# Altium footprint library ZenerDiode_DDZ6V8CSF-7_2-PIN.PcbLib: 1 footprints
Each footprint in its own frame and in the unit in brackets; x right, y up, seen from the top. Pads: shape width x height; smd on the part's side, far side on the other; paste and mask are expansions set on the pad; w line width, h text height; cw(c..) or ccw(c..) is an arc to the next point about the centre after c.
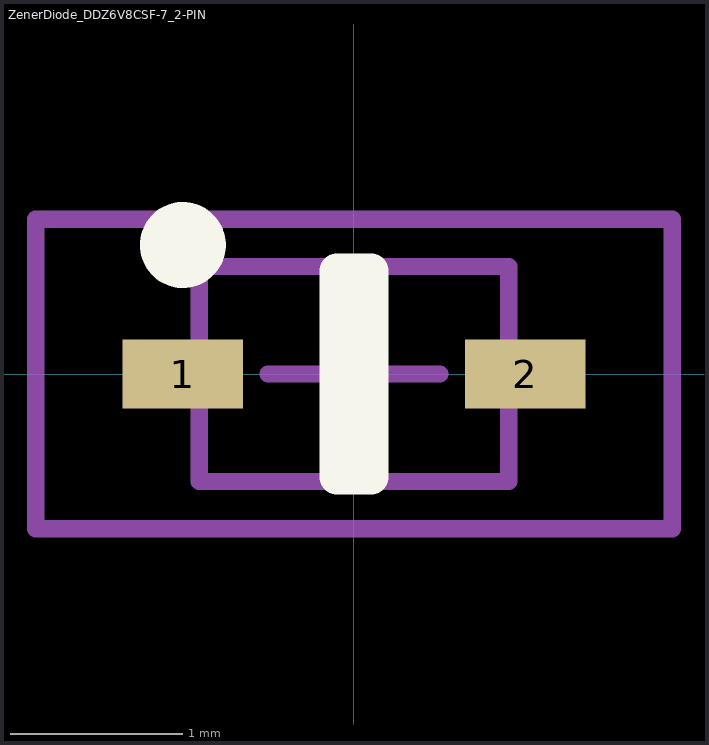
[diagram p0: the footprint, top view; thin cyan lines are the x and y axes]

## ZenerDiode_DDZ6V8CSF-7_2-PIN [mm]
height 0.75
pads (2):
  rect 0.7x0.4 smd: 1(-0.995,0) 2(0.995,0)
Top Overlay:
  circle w0.25: c-0.995,0.75 r0.125
  lines w0.2: -0.1,-0.6 -0.1,0.6 0.1,0.6 0.1,-0.6 -0.1,-0.6
Mechanical 13:
  lines w0.1: -0.9,-0.625 -0.9,0.625 0.9,0.625 0.9,-0.625 -0.9,-0.625
Mechanical 15:
  lines w0.1: -0.5,0 0.5,0 ; 0,-0.5 0,0.5 ; -1.85,-0.9 -1.85,0.9 1.85,0.9 1.85,-0.9 -1.85,-0.9
3D body: height 0.75, standoff 0, extent -0.9,-0.625 0.9,0.625